# EAGLE library part LTC3549 (library PowerProducts)
LT-Spice library generated with : ltspice.ulp from: D:/Program Files (x86)/LTC/LTspiceIV/lib/sym/PowerProducts/LTC3550-1*.asy at 07.10.2012 18:18:26
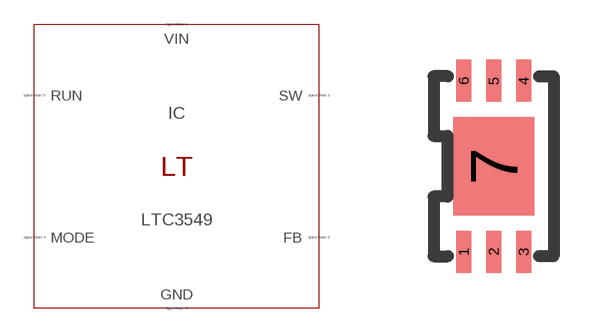
[diagram p244: symbol with the pads of DFN6(DCB); footprint DFN6(DCB)]

Designator prefix IC

## LTC3549 (SPICEMODEL: LTC3549.sub; SPICEPREFIX: X; VALUE2: LTC3549)  [DFN6(DCB)]
1  VIN  pas
2  GND  pas
3  SW  pas
4  MODE  pas
5  RUN  pas
6  FB  pas
7  GND  pas

## Footprint DFN6(DCB) (pad centres in mm)
Package generated from: DFN6(DCB).asc (!PADS-POWERPCB-V5.0-BASIC! DESIGN DATABASE ASCII FILE 1.0) with :import-pads-powerpcb-v5.ulp Version 1.0.1 at 04.10.2012 14:11:17
smd 0.375 x 1.05: 1 -0.75,-2.138; 2 0,-2.138; 3 0.75,-2.138; 4 0.75,2.138; 5 0,2.138; 6 -0.75,2.138
smd 2.025 x 2.475: 7 0,0